# Altium footprint library Flow_Pump1.PcbLib: 66 footprints (part 4 of 5)
Each footprint in its own frame and in the unit in brackets; x right, y up, seen from the top. Pads: shape width x height; smd on the part's side, far side on the other; paste and mask are expansions set on the pad; w line width, h text height; cw(c..) or ccw(c..) is an arc to the next point about the centre after c.
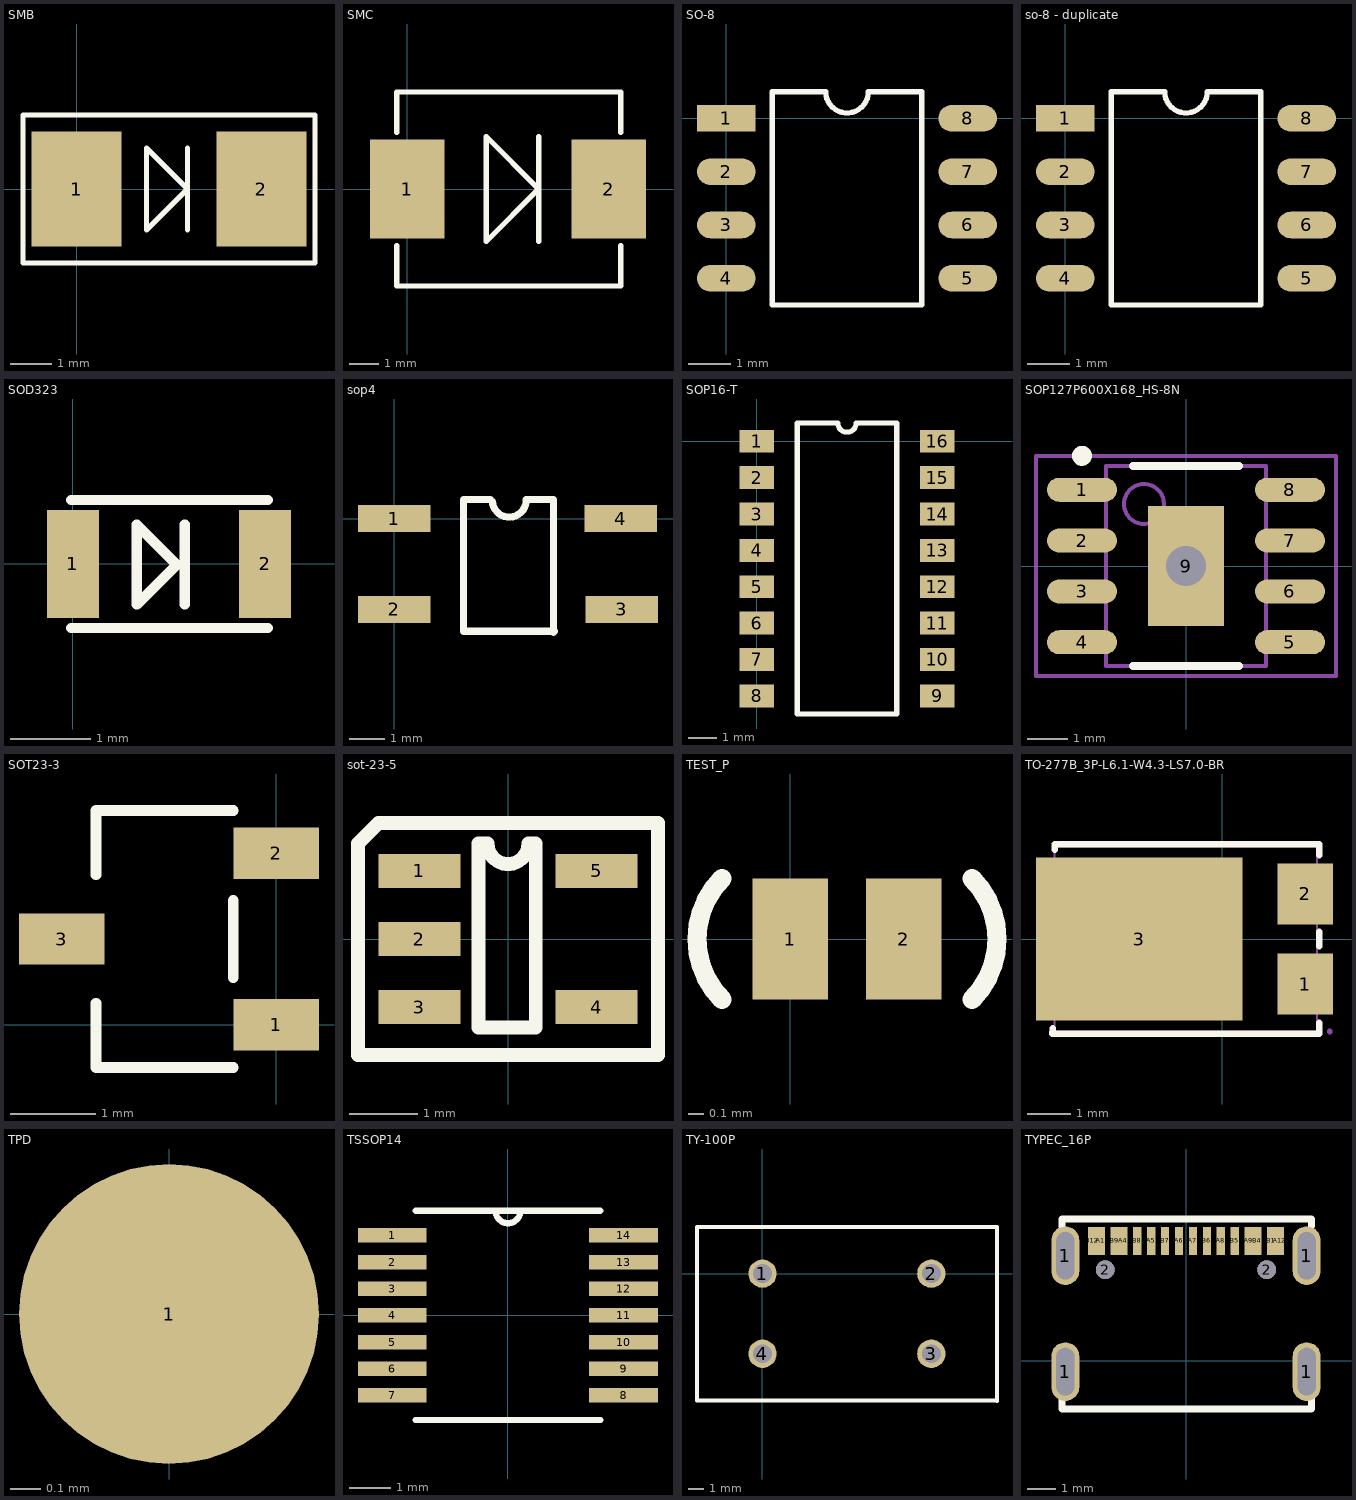
[diagram p3: the footprints below, top view; thin cyan lines are the x and y axes]

## SMB [mm]
height 0.75
pads (2):
  rect 2.2x2.8 smd: 1(0,0) 2(4.5,0)
Top Overlay:
  lines w0.127: 2.7,-1 2.7,1 ; -1.3,-1.8 -1.3,1.8 5.8,1.8 5.8,-1.8 -1.3,-1.8 ; 1.7,-1 1.7,1 2.7,0 1.7,-1

## SMC [mm]
height 0.75
pads (2):
  rect 2.5x3.3 smd: 1(0,0) 2(6.75,0)
Top Overlay:
  lines w0.178: -0.35,-1.9 -0.35,-3.25 7.15,-3.25 7.15,-1.9 ; -0.35,1.9 -0.35,3.25 7.15,3.25 7.15,1.9 ; 4.4,-1.75 4.4,1.75 ; 2.65,-1.75 4.4,0 2.65,1.75 2.65,-1.75

## SO-8 [mil]
height 29.53
pads (8):
  rect 55x25 smd: 1(0,0)
  oval 55x25 smd: 2(0,-50) 3(0,-100) 4(0,-150) 5(226.38,-150) 6(226.38,-100) 7(226.38,-50) 8(226.38,0)
Top Overlay:
  lines w5: 43.19,-175 183.19,-175 183.19,25 133.19,25 cw(c113.19,25) 93.19,25 43.19,25 43.19,-175

## so-8 - duplicate [mil]
pads (8):
  rect 55x25 smd: 1(0,0)
  oval 55x25 smd: 2(0,-50) 3(0,-100) 4(0,-150) 5(226.38,-150) 6(226.38,-100) 7(226.38,-50) 8(226.38,0)
Top Overlay:
  lines w5: 43.19,-175 183.19,-175 183.19,25 133.19,25 cw(c113.19,25) 93.19,25 43.19,25 43.19,-175

## SOD323 [mm]
height 0.75
pads (2):
  rect 0.65x1.35 smd: 1(0,0) 2(2.4,0)
Top Overlay:
  lines w0.127: -0.025,-0.8 2.438,-0.8 ; -0.025,0.8 2.438,0.8 ; 1.397,-0.508 1.397,0.492 ; 0.797,-0.508 1.297,-0.008 0.797,0.492 0.797,-0.508

## sop4 [mil]
height 318.9
pads (4):
  rect 80x30 smd: 1(0,0) 2(0,-100) 3(250,-100) 4(249,0)
Top Overlay:
  lines w7.87: 105.59,21 76,21 76,-124 176,-124 ; 107.7,18.89 ccw(c126.34,20.22) 145,21 175,21 175,-125

## SOP16-T [mm]
height 0.75
pads (16):
  rect 1.2x0.8 smd: 1(0,0) 2(0,-1.27) 3(0,-2.54) 4(0,-3.81) 5(0,-5.08) 6(0,-6.35) 7(0,-7.62) 8(0,-8.89) 9(6.3,-8.89) 10(6.3,-7.62) 11(6.3,-6.35) 12(6.3,-5.08) 13(6.3,-3.81) 14(6.3,-2.54) 15(6.3,-1.27) 16(6.3,0)
Top Overlay:
  lines w0.18: 1.415,-9.525 4.885,-9.525 4.885,0.635 3.467,0.635 cw(c3.15,0.635) 2.832,0.635 1.415,0.635 1.415,-9.525

## SOP127P600X168_HS-8N [mm] "SOP, 8-Leads, Body 5.0x4.0mm (max), Pitch 1.27mm, IPC Medium Density"
height 1.68
pads (9):
  oval 1.75x0.6 smd: 1(-2.6,1.905) 2(-2.6,0.635) 3(-2.6,-0.635) 4(-2.6,-1.905) 5(2.6,-1.905) 6(2.6,-0.635) 7(2.6,0.635) 8(2.6,1.905)
  rect 1.9x3 smd: 9(0,0)
via 0,0 diameter 1.5 hole 1
Top Overlay:
  circle w0.25: c-2.6,2.755 r0.125
  lines w0.2: -1.325,-2.5 1.325,-2.5 ; -1.325,2.5 1.325,2.5
Mechanical 13:
  circle w0.1: c-1.05,1.55 r0.5
  lines w0.1: -2,-2.5 2,-2.5 2,2.5 -2,2.5 -2,-2.5
Mechanical 15:
  lines w0.1: -0.5,0 0.5,0 ; 0,-0.5 0,0.5 ; -3.75,-2.75 3.75,-2.75 3.75,2.75 -3.75,2.75 -3.75,-2.75
3D body: height 1.68, standoff 0.25, extent -2,-2.5 2,2.5

## SOT23-3 [mm]
height 0.75
pads (3):
  rect 1x0.6 smd: 1(0,0) 2(0,2) 3(-2.5,1)
Top Overlay:
  lines w0.127: -2.1,0.25 -2.1,-0.5 -0.5,-0.5 ; -2.1,1.75 -2.1,2.5 -0.5,2.5 ; -0.5,0.55 -0.5,1.45

## sot-23-5 [mm]
height 1.76
pads (5):
  rect 1.2x0.5 smd: 1(-1.3,1) 2(-1.3,0) 3(-1.3,-1) 4(1.3,-1) 5(1.3,1)
Top Overlay:
  lines w0.203: -2.2,-1.7 -2.2,1.4 -1.9,1.7 2.2,1.7 2.2,-1.7 -2.2,-1.7 ; -0.432,-1.3 -0.432,1.4 -0.3,1.4 ccw(c0,1.4) 0.3,1.4 0.406,1.4 0.406,-1.3 -0.432,-1.3

## TEST_P [mm]
height 0.75
pads (2):
  rect 0.5x0.8 smd: 1(0,0) 2(0.75,0)
Top Overlay:
  lines w0.127: -0.45,-0.4 cw(c-0.05,0) -0.45,0.4 ; 1.2,-0.4 ccw(c0.8,0) 1.2,0.4

## TO-277B_3P-L6.1-W4.3-LS7.0-BR [mm]
height 0.75
pads (3):
  rect 1.29x1.422 smd: 1(1.933,-1.05) 2(1.933,1.05)
  rect 4.8x3.8 smd: 3(-1.933,0)
Top Overlay:
  lines w0.152: -3.949,-2.08 -3.95,-2.2 2.25,-2.2 2.25,-1.948 ; -3.901,2.08 -3.9,2.2 2.25,2.2 2.25,1.948 ; 2.25,-0.165 2.25,0.165
Mechanical 6:
  region: -0.6,0.7 -0.6,-0.7 -1.6,0
Mechanical 15:
  region: 1.5,-0.5 2.5,-0.5 2.5,-1.6 1.5,-1.6
  region: 1.5,1.6 2.5,1.6 2.5,0.5 1.5,0.5
  region: -3.95,-1.8 -3.95,-1.1 -4.25,-1.1 -4.25,1.1 -3.9,1.1 -3.9,1.7 0.25,1.7 0.25,-1.8
  region: 2.56,-2.15 2.56,-2.125 2.525,-2.09 2.475,-2.09 2.44,-2.125 2.44,-2.15 2.44,-2.175 2.475,-2.21 2.525,-2.21 2.56,-2.175 2.56,-2.15
  lines w0.051: -3.9,-2.15 2.2,-2.15 2.2,2.15 -3.9,2.15 -3.9,-2.15

## TPD [mm]
height 1.4
pads (1):
  round 1 smd: 1(0,0)

## TSSOP14 [mil]
height 29.53
pads (14):
  rect 66x14 smd: 1(-111,76.77) 2(-111,51.18) 3(-111,25.59) 4(-111,0) 5(-111,-25.59) 6(-111,-51.18) 7(-111,-76.77) 8(111,-76.77) 9(111,-51.18) 10(111,-25.59) 11(111,0) 12(111,25.59) 13(111,51.18) 14(111,76.77)
Top Overlay:
  lines w6: -88.5,-100.5 88.5,-100.5 ; -88.5,100.5 88.5,100.5 ; -12,100.5 ccw(c0,100.5) 12,100.5

## TY-100P [mm]
height 0.75
pads (4):
  round 1.8 hole 1.2: 1(0,0) 2(10.7,0) 3(10.7,-5.08) 4(0,-5.08)
Top Overlay:
  lines w0.254: 14.85,-8.04 -4.15,-8.04 -4.15,2.96 14.85,2.96 ; 14.859,-8.079 14.859,2.921

## TYPEC_16P [mm]
height 0.75
pads (22):
  oval 1x2.1 hole 0.65 slot 1.7 at 90 deg: 1(-4.32,-0.391) 1(-4.32,3.759) 1(4.32,-0.391) 1(4.32,3.759)
  round 0.67 hole 0.67: 2(-2.89,3.259) 2(2.89,3.259)
  rect 0.3x1 smd: A1(-3.05,4.293) A4(-2.25,4.293) A5(-1.25,4.293) A6(-0.25,4.293) A7(0.25,4.293) A8(1.25,4.293) A9(2.25,4.293) A12(3.35,4.293) B1(3.05,4.293) B4(2.55,4.293) B5(1.75,4.293) B6(0.75,4.293) B7(-0.75,4.293) B8(-1.75,4.293) B9(-2.55,4.293) B12(-3.35,4.293)
Top Overlay:
  lines w0.254: -4.445,-1.219 -4.445,-1.727 4.495,-1.727 4.495,-1.193 ; -4.445,4.801 -4.445,5.073 4.495,5.073 4.495,4.825